# Altium schematic symbol library 3296X-1-102LF.SchLib: 2 symbols
Pins are listed as number, name and electrical type; pins without a type are passive.

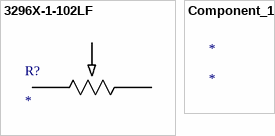
[diagram p0: symbols 3296X-1-102LF to Component_1]

## 3296X-1-102LF
designator R?
No Description Available; Mfr_Name: Bourns Electronics
footprint POT_3296X
pins: 1, 2, 3

## Component_1
designator *